# EAGLE library part UCC27423 (library keves)
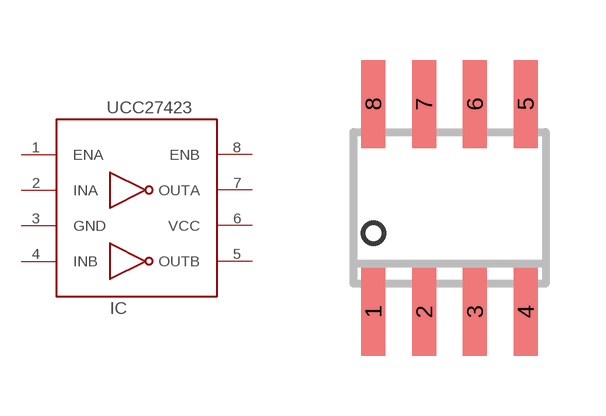
[diagram p39: symbol with the pads of SOIC8; footprint SOIC8]

Designator prefix IC

## UCC27423  [SOIC8]
1  ENA
2  INA
3  GND
4  INB
5  OUTB
6  VCC
7  OUTA
8  ENB

## Footprint SOIC8 (pad centres in mm)
Small Outline IC
smd 0.6 x 2.2: 1 -1.905,-2.6; 2 -0.635,-2.6; 3 0.635,-2.6; 4 1.905,-2.6; 5 1.905,2.6; 6 0.635,2.6; 7 -0.635,2.6; 8 -1.905,2.6